# Altium integrated library TI Interface LVDS M-LVDS ECL CML.IntLib: 251 symbols (part 5 of 10)
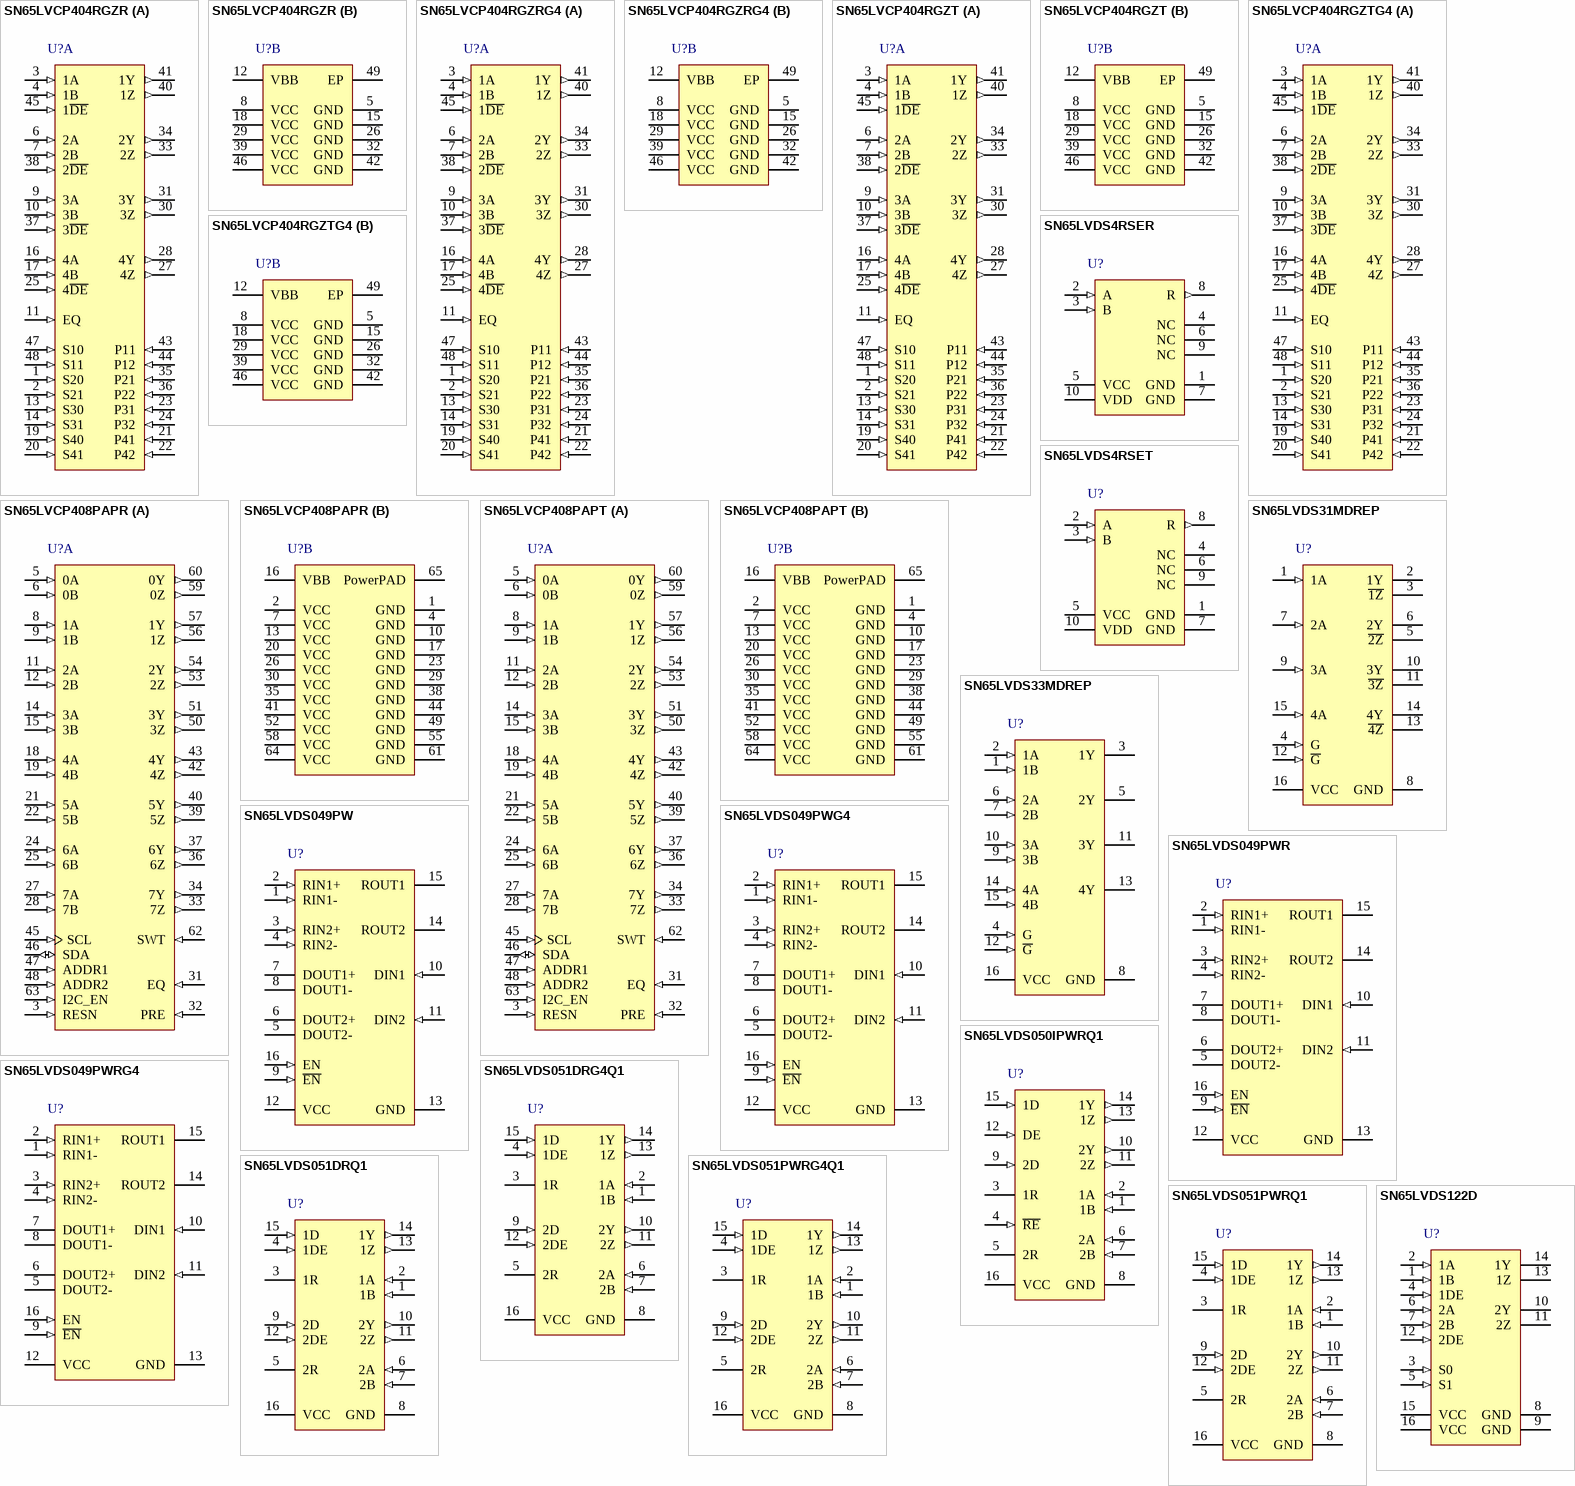
[diagram p13: symbols SN65LVCP404RGZR to SN65LVDS122D]

## SN65LVDS049PWR
designator U?
400 Mbps Dual High-Speed Differential Driver & Receiver with LVDS, LVTTL Input and LVDS, LVTTL Output, 2 Tx and 2 Rx, -40 to +85 degC, 16-pin TSSOP (PW), Green (RoHS & no Sb/Br); Part-to-Part Skew(Max)(ps): 1000; Manufacturer: Texas Instruments; PartNumber: SN65LVDS049PWR; ESD HBM(kV): 10; Function: Transceiver; ICC(Max)(mA): 35; LVDS: TRUE; No. of Rx: 2; Signaling Rate(Mbps): 400; SubFamily: LVDS PHY (<800Mbps); DatasheetVersion: SLLS575; PackageVersion: revG, Feb-2011; PackageReference: PW16; PackageDescription: 16-Pin Plastic Thin Small Outline Package 5 x 4.4 mm Body ,0.65 mm Pitch; Eco-Plan: Green (RoHS & no Sb/Br); Input Signal: LVDS, LVTTL; No. of Tx: 2; Output Signal: LVDS, LVTTL; Mounting Technology: Surface Mount; Code_JEDEC: MO-153; ComponentLink1Description: Datasheet; ComponentLink1URL: http://www.ti.com/general/docs/lit/getliterature.tsp?genericPartNumber=SN65LVDS049&fileType=pdf; ComponentLink2Description: URL Link1; ComponentLink2URL: SamplesURL:http://www.ti.com/product/sn65lvds049#samples
footprint PW16_N (TSOP, 16-Leads, Body 5x4.4mm, Pitch 0.65mm, IPC Medium Density)
footprint PW16_L (TSOP, 16-Leads, Body 5x4.4mm, Pitch 0.65mm, IPC High Density)
footprint PW16_M (TSOP, 16-Leads, Body 5x4.4mm, Pitch 0.65mm, IPC Low Density)
pins: 1 RIN1- (in), 2 RIN1+ (in), 3 RIN2+ (in), 4 RIN2- (in), 5 DOUT2- (hiz), 6 DOUT2+ (hiz), 7 DOUT1+ (hiz), 8 DOUT1- (hiz), 9 ~{EN} (in), 10 DIN1 (in), 11 DIN2 (in), 12 VCC (power), 13 GND (power), 14 ROUT2 (hiz), 15 ROUT1 (hiz), 16 EN (in)

## SN65LVDS049PWRG4
designator U?
400 Mbps Dual High-Speed Differential Driver & Receiver with LVDS, LVTTL Input and LVDS, LVTTL Output, 2 Tx and 2 Rx, -40 to +85 degC, 16-pin TSSOP (PW), Green (RoHS & no Sb/Br); Part-to-Part Skew(Max)(ps): 1000; Manufacturer: Texas Instruments; PartNumber: SN65LVDS049PWRG4; ESD HBM(kV): 10; Function: Transceiver; ICC(Max)(mA): 35; LVDS: TRUE; No. of Rx: 2; Signaling Rate(Mbps): 400; SubFamily: LVDS PHY (<800Mbps); DatasheetVersion: SLLS575; PackageVersion: revG, Feb-2011; PackageReference: PW16; PackageDescription: 16-Pin Plastic Thin Small Outline Package 5 x 4.4 mm Body ,0.65 mm Pitch; Eco-Plan: Green (RoHS & no Sb/Br); Input Signal: LVDS, LVTTL; No. of Tx: 2; Output Signal: LVDS, LVTTL; Mounting Technology: Surface Mount; Code_JEDEC: MO-153; ComponentLink1Description: Datasheet; ComponentLink1URL: http://www.ti.com/general/docs/lit/getliterature.tsp?genericPartNumber=SN65LVDS049&fileType=pdf; ComponentLink2Description: URL Link1; ComponentLink2URL: SamplesURL:http://www.ti.com/product/sn65lvds049#samples
footprint PW16_N (TSOP, 16-Leads, Body 5x4.4mm, Pitch 0.65mm, IPC Medium Density)
footprint PW16_L (TSOP, 16-Leads, Body 5x4.4mm, Pitch 0.65mm, IPC High Density)
footprint PW16_M (TSOP, 16-Leads, Body 5x4.4mm, Pitch 0.65mm, IPC Low Density)
pins: 1 RIN1- (in), 2 RIN1+ (in), 3 RIN2+ (in), 4 RIN2- (in), 5 DOUT2- (hiz), 6 DOUT2+ (hiz), 7 DOUT1+ (hiz), 8 DOUT1- (hiz), 9 ~{EN} (in), 10 DIN1 (in), 11 DIN2 (in), 12 VCC (power), 13 GND (power), 14 ROUT2 (hiz), 15 ROUT1 (hiz), 16 EN (in)

## SN65LVDS050IPWRQ1
designator U?
400 Mbps Automotive Catalog High-Speed Differential Line Drivers and Receivers with LVDS, LVTTL Input and LVDS, LVTTL Output, 2 Tx and 2 Rx, -40 to +85 degC, 16-pin TSSOP (PW), Green (RoHS & no Sb/Br); Manufacturer: Texas Instruments; PartNumber: SN65LVDS050IPWRQ1; ESD HBM(kV): 12; Function: Transceiver; ICC(Max)(mA): 20; No. of Rx: 2; Signaling Rate(Mbps): 400; SubFamily: LVDS PHY (<800Mbps); DatasheetVersion: SGLS204B; PackageVersion: revG, Feb-2011; PackageReference: PW16; PackageDescription: 16-Pin Plastic Thin Small Outline Package 5 x 4.4 mm Body ,0.65 mm Pitch; Supplier 1: Digi-Key; Supplier Part Number 1: 296-30094-2-ND; Supplier 2: Digi-Key; Supplier Part Number 2: 296-30094-1-ND; Supplier 3: Digi-Key; Supplier Part Number 3: 296-30094-6-ND; Supplier 4: Newark; Supplier Part Number 4: 76T7402; Supplier 5: Mouser; Supplier Part Number 5: 595-N65LVDS050IPWRQ1; Eco-Plan: Green (RoHS & no Sb/Br); Input Signal: LVDS, LVTTL; No. of Tx: 2; Output Signal: LVDS, LVTTL; Mounting Technology: Surface Mount; Code_JEDEC: MO-153; ComponentLink1Description: Datasheet; ComponentLink1URL: http://www.ti.com/general/docs/lit/getliterature.tsp?genericPartNumber=SN65LVDS050-Q1&fileType=pdf; ComponentLink2Description: URL Link1; ComponentLink2URL: SamplesURL:http://www.ti.com/product/sn65lvds050-q1#samples
footprint PW16_N (TSOP, 16-Leads, Body 5x4.4mm, Pitch 0.65mm, IPC Medium Density)
footprint PW16_L (TSOP, 16-Leads, Body 5x4.4mm, Pitch 0.65mm, IPC High Density)
footprint PW16_M (TSOP, 16-Leads, Body 5x4.4mm, Pitch 0.65mm, IPC Low Density)
pins: 1 1B (in), 2 1A (in), 3 1R (hiz), 4 ~{RE} (in), 5 2R (hiz), 6 2A (in), 7 2B (in), 8 GND (power), 9 2D (in), 10 2Y (out), 11 2Z (out), 12 DE (in), 13 1Z (out), 14 1Y (out), 15 1D (in), 16 VCC (power)

## SN65LVDS051DRG4Q1
designator U?
400 Mbps Automotive Catalog High-Speed Differential Line Drivers and Receivers with LVDS, LVTTL Input and LVDS, LVTTL Output, 2 Tx and 2 Rx, -40 to +85 degC, 16-pin SOIC (D), Green (RoHS & no Sb/Br); Manufacturer: Texas Instruments; PartNumber: SN65LVDS051DRG4Q1; ESD HBM(kV): 2; ICC(Max)(mA): 20; LVDS: TRUE; Signaling Rate(Mbps): 400; SubFamily: LVDS PHY (<800Mbps); DatasheetVersion: SGLS204B; PackageVersion: revM, Jun-2011; PackageReference: D16; PackageDescription: 16-Pin Plastic Small Outline Integrated Circuit, 9.9 x 3.9 mm, Pitch 1.27 mm Pitch; Supplier 1: Digi-Key; Supplier Part Number 1: 296-24422-2-ND; Supplier 2: Digi-Key; Supplier Part Number 2: 296-24422-1-ND; Supplier 3: Digi-Key; Supplier Part Number 3: 296-24422-6-ND; Supplier 4: Mouser; Supplier Part Number 4: 595-S65LVDS051DRG4Q1; Eco-Plan: Green (RoHS & no Sb/Br); Input Signal: LVDS, LVTTL; No. of Rx: 2; No. of Tx: 2; Output Signal: LVDS, LVTTL; Mounting Technology: Surface Mount; Code_JEDEC: MS-012AC; ComponentLink1Description: Datasheet; ComponentLink1URL: http://www.ti.com/general/docs/lit/getliterature.tsp?genericPartNumber=SN65LVDS051-Q1&fileType=pdf; ComponentLink2Description: URL Link1; ComponentLink2URL: SamplesURL:http://www.ti.com/product/sn65lvds051-q1#samples
footprint D16_N (SOIC, 16-Leads, Body 9.9x3.9mm, Pitch 1.27mm, IPC Medium Density)
footprint D16_L (SOIC, 16-Leads, Body 9.9x3.9mm, Pitch 1.27mm, IPC High Density)
footprint D16_M (SOIC, 16-Leads, Body 9.9x3.9mm, Pitch 1.27mm, IPC Low Density)
pins: 1 1B (in), 2 1A (in), 3 1R (hiz), 4 1DE (in), 5 2R (hiz), 6 2A (in), 7 2B (in), 8 GND (power), 9 2D (in), 10 2Y (out), 11 2Z (out), 12 2DE (in), 13 1Z (out), 14 1Y (out), 15 1D (in), 16 VCC (power)

## SN65LVDS051DRQ1
designator U?
400 Mbps Automotive Catalog High-Speed Differential Line Drivers and Receivers with LVDS, LVTTL Input and LVDS, LVTTL Output, 2 Tx and 2 Rx, -40 to +85 degC, 16-pin SOIC (D), Green (RoHS & no Sb/Br); Manufacturer: Texas Instruments; PartNumber: SN65LVDS051DRQ1; ESD HBM(kV): 2; ICC(Max)(mA): 20; LVDS: TRUE; Signaling Rate(Mbps): 400; SubFamily: LVDS PHY (<800Mbps); DatasheetVersion: SGLS204B; PackageVersion: revM, Jun-2011; PackageReference: D16; PackageDescription: 16-Pin Plastic Small Outline Integrated Circuit, 9.9 x 3.9 mm, Pitch 1.27 mm Pitch; Supplier 1: Digi-Key; Supplier Part Number 1: SN65LVDS051DRQ1-ND; Supplier 2: Mouser; Supplier Part Number 2: 595-SN65LVDS051DRQ1; Eco-Plan: Green (RoHS & no Sb/Br); Input Signal: LVDS, LVTTL; No. of Rx: 2; No. of Tx: 2; Output Signal: LVDS, LVTTL; Mounting Technology: Surface Mount; Code_JEDEC: MS-012AC; ComponentLink1Description: Datasheet; ComponentLink1URL: http://www.ti.com/general/docs/lit/getliterature.tsp?genericPartNumber=SN65LVDS051-Q1&fileType=pdf; ComponentLink2Description: URL Link1; ComponentLink2URL: SamplesURL:http://www.ti.com/product/sn65lvds051-q1#samples
footprint D16_N (SOIC, 16-Leads, Body 9.9x3.9mm, Pitch 1.27mm, IPC Medium Density)
footprint D16_L (SOIC, 16-Leads, Body 9.9x3.9mm, Pitch 1.27mm, IPC High Density)
footprint D16_M (SOIC, 16-Leads, Body 9.9x3.9mm, Pitch 1.27mm, IPC Low Density)
pins: 1 1B (in), 2 1A (in), 3 1R (hiz), 4 1DE (in), 5 2R (hiz), 6 2A (in), 7 2B (in), 8 GND (power), 9 2D (in), 10 2Y (out), 11 2Z (out), 12 2DE (in), 13 1Z (out), 14 1Y (out), 15 1D (in), 16 VCC (power)

## SN65LVDS051PWRG4Q1
designator U?
400 Mbps Automotive Catalog High-Speed Differential Line Drivers and Receivers with LVDS, LVTTL Input and LVDS, LVTTL Output, 2 Tx and 2 Rx, -40 to +85 degC, 16-pin TSSOP (PW), Green (RoHS & no Sb/Br); Manufacturer: Texas Instruments; PartNumber: SN65LVDS051PWRG4Q1; ESD HBM(kV): 2; ICC(Max)(mA): 20; LVDS: TRUE; Signaling Rate(Mbps): 400; SubFamily: LVDS PHY (<800Mbps); DatasheetVersion: SGLS204B; PackageVersion: revG, Feb-2011; PackageReference: PW16; PackageDescription: 16-Pin Plastic Thin Small Outline Package 5 x 4.4 mm Body ,0.65 mm Pitch; Supplier 1: Digi-Key; Supplier Part Number 1: SN65LVDS051PWRG4Q1-ND; Eco-Plan: Green (RoHS & no Sb/Br); Input Signal: LVDS, LVTTL; No. of Rx: 2; No. of Tx: 2; Output Signal: LVDS, LVTTL; Mounting Technology: Surface Mount; Code_JEDEC: MO-153; ComponentLink1Description: Datasheet; ComponentLink1URL: http://www.ti.com/general/docs/lit/getliterature.tsp?genericPartNumber=SN65LVDS051-Q1&fileType=pdf; ComponentLink2Description: URL Link1; ComponentLink2URL: SamplesURL:http://www.ti.com/product/sn65lvds051-q1#samples
footprint PW16_N (TSOP, 16-Leads, Body 5x4.4mm, Pitch 0.65mm, IPC Medium Density)
footprint PW16_L (TSOP, 16-Leads, Body 5x4.4mm, Pitch 0.65mm, IPC High Density)
footprint PW16_M (TSOP, 16-Leads, Body 5x4.4mm, Pitch 0.65mm, IPC Low Density)
pins: 1 1B (in), 2 1A (in), 3 1R (hiz), 4 1DE (in), 5 2R (hiz), 6 2A (in), 7 2B (in), 8 GND (power), 9 2D (in), 10 2Y (out), 11 2Z (out), 12 2DE (in), 13 1Z (out), 14 1Y (out), 15 1D (in), 16 VCC (power)

## SN65LVDS051PWRQ1
designator U?
400 Mbps Automotive Catalog High-Speed Differential Line Drivers and Receivers with LVDS, LVTTL Input and LVDS, LVTTL Output, 2 Tx and 2 Rx, -40 to +85 degC, 16-pin TSSOP (PW), Green (RoHS & no Sb/Br); Manufacturer: Texas Instruments; PartNumber: SN65LVDS051PWRQ1; ESD HBM(kV): 2; ICC(Max)(mA): 20; LVDS: TRUE; Signaling Rate(Mbps): 400; SubFamily: LVDS PHY (<800Mbps); DatasheetVersion: SGLS204B; PackageVersion: revG, Feb-2011; PackageReference: PW16; PackageDescription: 16-Pin Plastic Thin Small Outline Package 5 x 4.4 mm Body ,0.65 mm Pitch; Eco-Plan: Green (RoHS & no Sb/Br); Input Signal: LVDS, LVTTL; No. of Rx: 2; No. of Tx: 2; Output Signal: LVDS, LVTTL; Mounting Technology: Surface Mount; Code_JEDEC: MO-153; ComponentLink1Description: Datasheet; ComponentLink1URL: http://www.ti.com/general/docs/lit/getliterature.tsp?genericPartNumber=SN65LVDS051-Q1&fileType=pdf; ComponentLink2Description: URL Link1; ComponentLink2URL: SamplesURL:http://www.ti.com/product/sn65lvds051-q1#samples
footprint PW16_N (TSOP, 16-Leads, Body 5x4.4mm, Pitch 0.65mm, IPC Medium Density)
footprint PW16_L (TSOP, 16-Leads, Body 5x4.4mm, Pitch 0.65mm, IPC High Density)
footprint PW16_M (TSOP, 16-Leads, Body 5x4.4mm, Pitch 0.65mm, IPC Low Density)
pins: 1 1B (in), 2 1A (in), 3 1R (hiz), 4 1DE (in), 5 2R (hiz), 6 2A (in), 7 2B (in), 8 GND (power), 9 2D (in), 10 2Y (out), 11 2Z (out), 12 2DE (in), 13 1Z (out), 14 1Y (out), 15 1D (in), 16 VCC (power)

## SN65LVDS122D
designator U?
1500 Mbps 2 X 2 LVDS Crosspoint Switch with CML, LVDS, LVPECL Input and LVDS Output, 2 Tx and 2 Rx, -40 to +85 degC, 16-pin SOIC (D), Green (RoHS & no Sb/Br); Manufacturer: Texas Instruments; PartNumber: SN65LVDS122D; Crosspoint-Switch: TRUE; ESD HBM(kV): 4; ICC(Max)(mA): 100; No. of Rx: 2; Peak-to-Peak Jitter(Max)(ps): 65; Signaling Rate(Mbps): 1500; SubFamily: Crosspoint-Switch (>1Gbps); DatasheetVersion: SLLS525B; PackageVersion: revM, Jun-2011; PackageReference: D16; PackageDescription: 16-Pin Plastic Small Outline Integrated Circuit, 9.9 x 3.9 mm, Pitch 1.27 mm Pitch; Eco-Plan: Green (RoHS & no Sb/Br); Function: Crosspoint; Input Signal: CML, LVDS, LVPECL; No. of Tx: 2; Output Signal: LVDS; Part-to-Part Skew(Max)(ps): 100; Mounting Technology: Surface Mount; Code_JEDEC: MS-012AC; ComponentLink1Description: Datasheet; ComponentLink1URL: http://www.ti.com/general/docs/lit/getliterature.tsp?genericPartNumber=SN65LVDS122&fileType=pdf; ComponentLink2Description: URL Link1; ComponentLink2URL: SamplesURL:http://www.ti.com/product/sn65lvds122#samples
footprint D16_N (SOIC, 16-Leads, Body 9.9x3.9mm, Pitch 1.27mm, IPC Medium Density)
footprint D16_L (SOIC, 16-Leads, Body 9.9x3.9mm, Pitch 1.27mm, IPC High Density)
footprint D16_M (SOIC, 16-Leads, Body 9.9x3.9mm, Pitch 1.27mm, IPC Low Density)
pins: 1 1B (in), 2 1A (in), 3 S0 (in), 4 1DE (in), 5 S1 (in), 6 2A (in), 7 2B (in), 8 GND (power), 9 GND (power), 10 2Y (hiz), 11 2Z (hiz), 12 2DE (in), 13 1Z (hiz), 14 1Y (hiz), 15 VCC (power), 16 VCC (power)

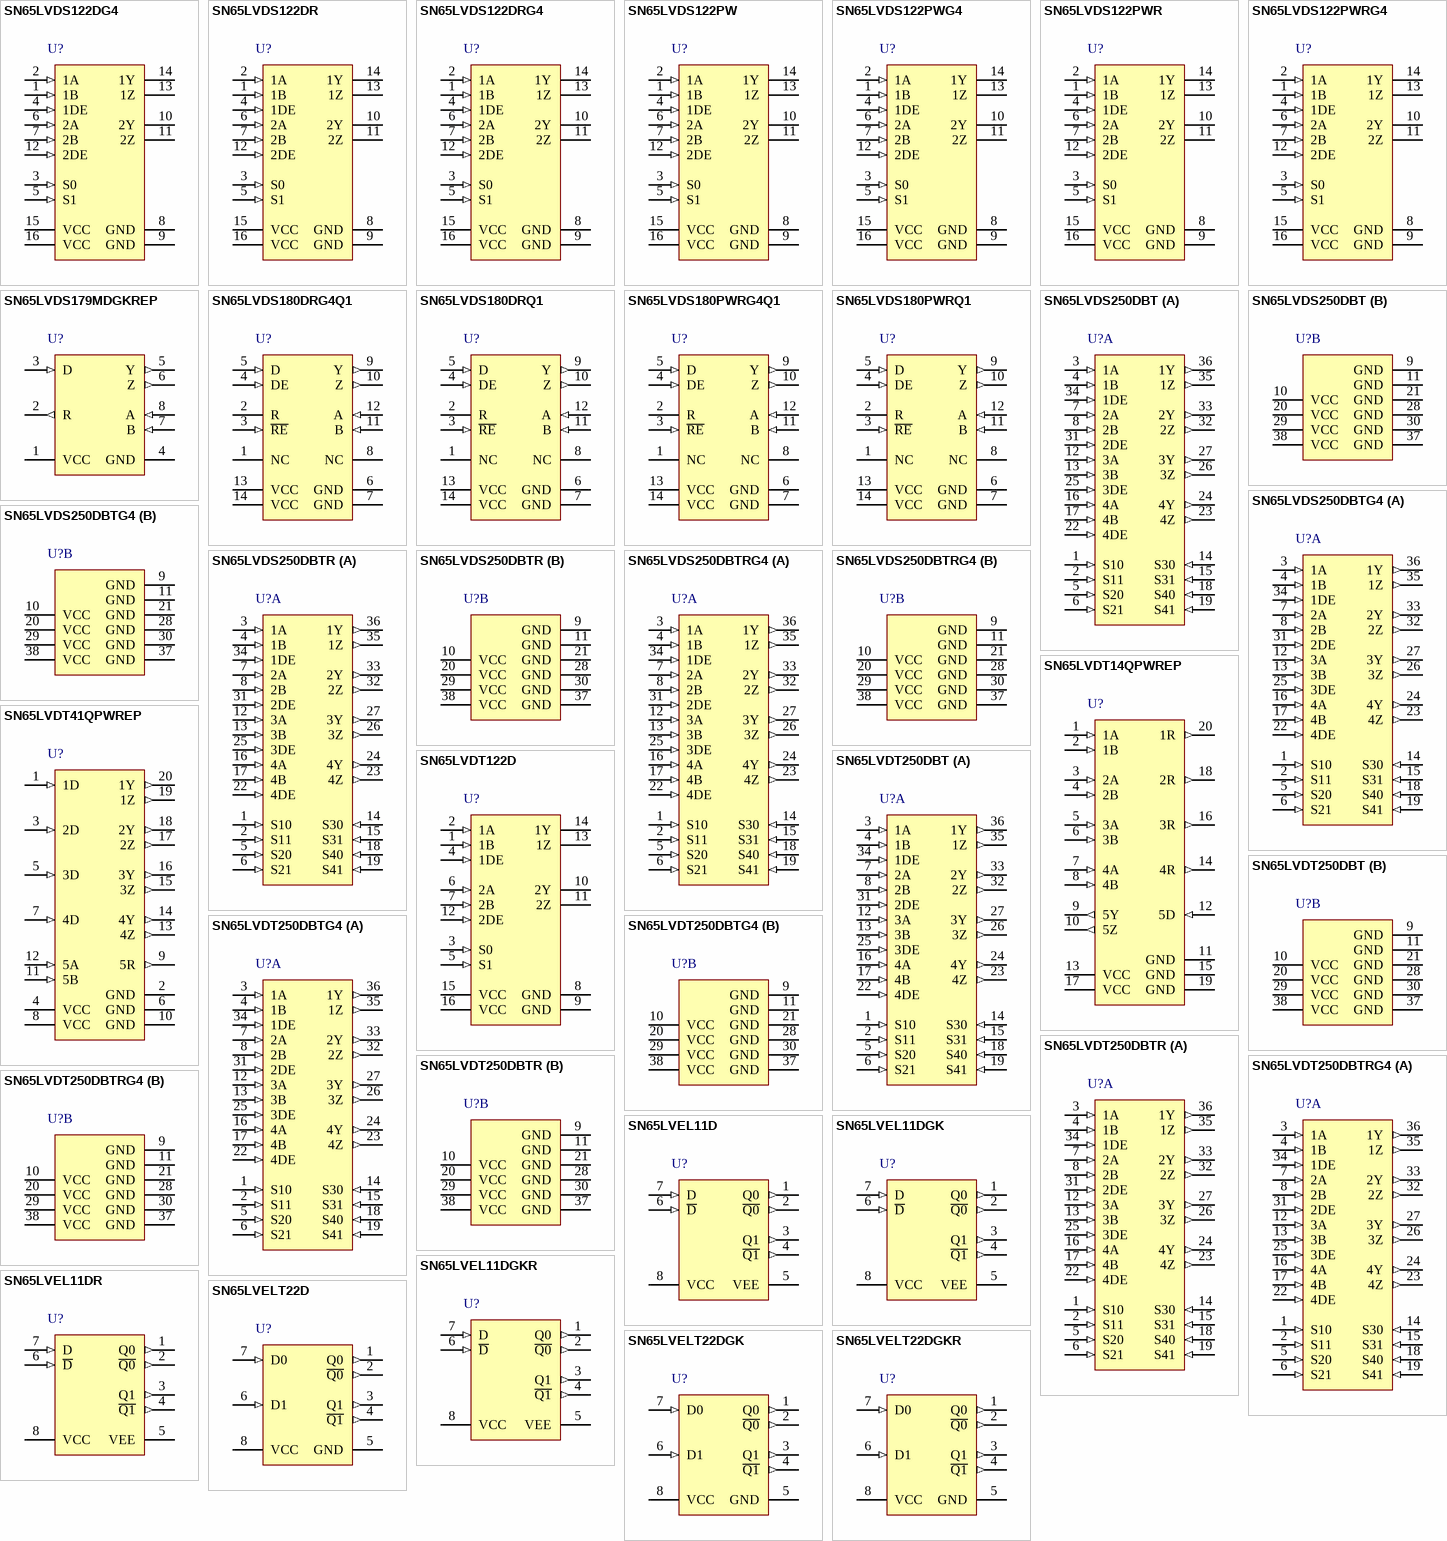
[diagram p4: symbols SN65LVDS122DG4 to SN65LVELT22DGKR]

## SN65LVDS122DG4
designator U?
1500 Mbps 2 X 2 LVDS Crosspoint Switch with CML, LVDS, LVPECL Input and LVDS Output, 2 Tx and 2 Rx, -40 to +85 degC, 16-pin SOIC (D), Green (RoHS & no Sb/Br); Manufacturer: Texas Instruments; PartNumber: SN65LVDS122DG4; Crosspoint-Switch: TRUE; ESD HBM(kV): 4; ICC(Max)(mA): 100; No. of Rx: 2; Peak-to-Peak Jitter(Max)(ps): 65; Signaling Rate(Mbps): 1500; SubFamily: Crosspoint-Switch (>1Gbps); DatasheetVersion: SLLS525B; PackageVersion: revM, Jun-2011; PackageReference: D16; PackageDescription: 16-Pin Plastic Small Outline Integrated Circuit, 9.9 x 3.9 mm, Pitch 1.27 mm Pitch; Eco-Plan: Green (RoHS & no Sb/Br); Function: Crosspoint; Input Signal: CML, LVDS, LVPECL; No. of Tx: 2; Output Signal: LVDS; Part-to-Part Skew(Max)(ps): 100; Mounting Technology: Surface Mount; Code_JEDEC: MS-012AC; ComponentLink1Description: Datasheet; ComponentLink1URL: http://www.ti.com/general/docs/lit/getliterature.tsp?genericPartNumber=SN65LVDS122&fileType=pdf; ComponentLink2Description: URL Link1; ComponentLink2URL: SamplesURL:http://www.ti.com/product/sn65lvds122#samples
footprint D16_N (SOIC, 16-Leads, Body 9.9x3.9mm, Pitch 1.27mm, IPC Medium Density)
footprint D16_L (SOIC, 16-Leads, Body 9.9x3.9mm, Pitch 1.27mm, IPC High Density)
footprint D16_M (SOIC, 16-Leads, Body 9.9x3.9mm, Pitch 1.27mm, IPC Low Density)
pins: 1 1B (in), 2 1A (in), 3 S0 (in), 4 1DE (in), 5 S1 (in), 6 2A (in), 7 2B (in), 8 GND (power), 9 GND (power), 10 2Y (hiz), 11 2Z (hiz), 12 2DE (in), 13 1Z (hiz), 14 1Y (hiz), 15 VCC (power), 16 VCC (power)

## SN65LVDS122DR
designator U?
1500 Mbps 2 X 2 LVDS Crosspoint Switch with CML, LVDS, LVPECL Input and LVDS Output, 2 Tx and 2 Rx, -40 to +85 degC, 16-pin SOIC (D), Green (RoHS & no Sb/Br); Manufacturer: Texas Instruments; PartNumber: SN65LVDS122DR; Crosspoint-Switch: TRUE; ESD HBM(kV): 4; ICC(Max)(mA): 100; No. of Rx: 2; Peak-to-Peak Jitter(Max)(ps): 65; Signaling Rate(Mbps): 1500; SubFamily: Crosspoint-Switch (>1Gbps); DatasheetVersion: SLLS525B; PackageVersion: revM, Jun-2011; PackageReference: D16; PackageDescription: 16-Pin Plastic Small Outline Integrated Circuit, 9.9 x 3.9 mm, Pitch 1.27 mm Pitch; Eco-Plan: Green (RoHS & no Sb/Br); Function: Crosspoint; Input Signal: CML, LVDS, LVPECL; No. of Tx: 2; Output Signal: LVDS; Part-to-Part Skew(Max)(ps): 100; Mounting Technology: Surface Mount; Code_JEDEC: MS-012AC; ComponentLink1Description: Datasheet; ComponentLink1URL: http://www.ti.com/general/docs/lit/getliterature.tsp?genericPartNumber=SN65LVDS122&fileType=pdf; ComponentLink2Description: URL Link1; ComponentLink2URL: SamplesURL:http://www.ti.com/product/sn65lvds122#samples
footprint D16_N (SOIC, 16-Leads, Body 9.9x3.9mm, Pitch 1.27mm, IPC Medium Density)
footprint D16_L (SOIC, 16-Leads, Body 9.9x3.9mm, Pitch 1.27mm, IPC High Density)
footprint D16_M (SOIC, 16-Leads, Body 9.9x3.9mm, Pitch 1.27mm, IPC Low Density)
pins: 1 1B (in), 2 1A (in), 3 S0 (in), 4 1DE (in), 5 S1 (in), 6 2A (in), 7 2B (in), 8 GND (power), 9 GND (power), 10 2Y (hiz), 11 2Z (hiz), 12 2DE (in), 13 1Z (hiz), 14 1Y (hiz), 15 VCC (power), 16 VCC (power)

## SN65LVDS122DRG4
designator U?
1500 Mbps 2 X 2 LVDS Crosspoint Switch with CML, LVDS, LVPECL Input and LVDS Output, 2 Tx and 2 Rx, -40 to +85 degC, 16-pin SOIC (D), Green (RoHS & no Sb/Br); Manufacturer: Texas Instruments; PartNumber: SN65LVDS122DRG4; Crosspoint-Switch: TRUE; ESD HBM(kV): 4; ICC(Max)(mA): 100; No. of Rx: 2; Peak-to-Peak Jitter(Max)(ps): 65; Signaling Rate(Mbps): 1500; SubFamily: Crosspoint-Switch (>1Gbps); DatasheetVersion: SLLS525B; PackageVersion: revM, Jun-2011; PackageReference: D16; PackageDescription: 16-Pin Plastic Small Outline Integrated Circuit, 9.9 x 3.9 mm, Pitch 1.27 mm Pitch; Eco-Plan: Green (RoHS & no Sb/Br); Function: Crosspoint; Input Signal: CML, LVDS, LVPECL; No. of Tx: 2; Output Signal: LVDS; Part-to-Part Skew(Max)(ps): 100; Mounting Technology: Surface Mount; Code_JEDEC: MS-012AC; ComponentLink1Description: Datasheet; ComponentLink1URL: http://www.ti.com/general/docs/lit/getliterature.tsp?genericPartNumber=SN65LVDS122&fileType=pdf; ComponentLink2Description: URL Link1; ComponentLink2URL: SamplesURL:http://www.ti.com/product/sn65lvds122#samples
footprint D16_N (SOIC, 16-Leads, Body 9.9x3.9mm, Pitch 1.27mm, IPC Medium Density)
footprint D16_L (SOIC, 16-Leads, Body 9.9x3.9mm, Pitch 1.27mm, IPC High Density)
footprint D16_M (SOIC, 16-Leads, Body 9.9x3.9mm, Pitch 1.27mm, IPC Low Density)
pins: 1 1B (in), 2 1A (in), 3 S0 (in), 4 1DE (in), 5 S1 (in), 6 2A (in), 7 2B (in), 8 GND (power), 9 GND (power), 10 2Y (hiz), 11 2Z (hiz), 12 2DE (in), 13 1Z (hiz), 14 1Y (hiz), 15 VCC (power), 16 VCC (power)

## SN65LVDS122PW
designator U?
1500 Mbps 2 X 2 LVDS Crosspoint Switch with CML, LVDS, LVPECL Input and LVDS Output, 2 Tx and 2 Rx, -40 to +85 degC, 16-pin TSSOP (PW), Green (RoHS & no Sb/Br); Manufacturer: Texas Instruments; PartNumber: SN65LVDS122PW; Crosspoint-Switch: TRUE; ESD HBM(kV): 4; ICC(Max)(mA): 100; No. of Rx: 2; Peak-to-Peak Jitter(Max)(ps): 65; Signaling Rate(Mbps): 1500; SubFamily: Crosspoint-Switch (>1Gbps); DatasheetVersion: SLLS525B; PackageVersion: revG, Feb-2011; PackageReference: PW16; PackageDescription: 16-Pin Plastic Thin Small Outline Package 5 x 4.4 mm Body ,0.65 mm Pitch; Eco-Plan: Green (RoHS & no Sb/Br); Function: Crosspoint; Input Signal: CML, LVDS, LVPECL; No. of Tx: 2; Output Signal: LVDS; Part-to-Part Skew(Max)(ps): 100; Mounting Technology: Surface Mount; Code_JEDEC: MO-153; ComponentLink1Description: Datasheet; ComponentLink1URL: http://www.ti.com/general/docs/lit/getliterature.tsp?genericPartNumber=SN65LVDS122&fileType=pdf; ComponentLink2Description: URL Link1; ComponentLink2URL: SamplesURL:http://www.ti.com/product/sn65lvds122#samples
footprint PW16_N (TSOP, 16-Leads, Body 5x4.4mm, Pitch 0.65mm, IPC Medium Density)
footprint PW16_L (TSOP, 16-Leads, Body 5x4.4mm, Pitch 0.65mm, IPC High Density)
footprint PW16_M (TSOP, 16-Leads, Body 5x4.4mm, Pitch 0.65mm, IPC Low Density)
pins: 1 1B (in), 2 1A (in), 3 S0 (in), 4 1DE (in), 5 S1 (in), 6 2A (in), 7 2B (in), 8 GND (power), 9 GND (power), 10 2Y (hiz), 11 2Z (hiz), 12 2DE (in), 13 1Z (hiz), 14 1Y (hiz), 15 VCC (power), 16 VCC (power)

## SN65LVDS122PWG4
designator U?
1500 Mbps 2 X 2 LVDS Crosspoint Switch with CML, LVDS, LVPECL Input and LVDS Output, 2 Tx and 2 Rx, -40 to +85 degC, 16-pin TSSOP (PW), Green (RoHS & no Sb/Br); Manufacturer: Texas Instruments; PartNumber: SN65LVDS122PWG4; Crosspoint-Switch: TRUE; ESD HBM(kV): 4; ICC(Max)(mA): 100; No. of Rx: 2; Peak-to-Peak Jitter(Max)(ps): 65; Signaling Rate(Mbps): 1500; SubFamily: Crosspoint-Switch (>1Gbps); DatasheetVersion: SLLS525B; PackageVersion: revG, Feb-2011; PackageReference: PW16; PackageDescription: 16-Pin Plastic Thin Small Outline Package 5 x 4.4 mm Body ,0.65 mm Pitch; Eco-Plan: Green (RoHS & no Sb/Br); Function: Crosspoint; Input Signal: CML, LVDS, LVPECL; No. of Tx: 2; Output Signal: LVDS; Part-to-Part Skew(Max)(ps): 100; Mounting Technology: Surface Mount; Code_JEDEC: MO-153; ComponentLink1Description: Datasheet; ComponentLink1URL: http://www.ti.com/general/docs/lit/getliterature.tsp?genericPartNumber=SN65LVDS122&fileType=pdf; ComponentLink2Description: URL Link1; ComponentLink2URL: SamplesURL:http://www.ti.com/product/sn65lvds122#samples
footprint PW16_N (TSOP, 16-Leads, Body 5x4.4mm, Pitch 0.65mm, IPC Medium Density)
footprint PW16_L (TSOP, 16-Leads, Body 5x4.4mm, Pitch 0.65mm, IPC High Density)
footprint PW16_M (TSOP, 16-Leads, Body 5x4.4mm, Pitch 0.65mm, IPC Low Density)
pins: 1 1B (in), 2 1A (in), 3 S0 (in), 4 1DE (in), 5 S1 (in), 6 2A (in), 7 2B (in), 8 GND (power), 9 GND (power), 10 2Y (hiz), 11 2Z (hiz), 12 2DE (in), 13 1Z (hiz), 14 1Y (hiz), 15 VCC (power), 16 VCC (power)

## SN65LVDS122PWR
designator U?
1500 Mbps 2 X 2 LVDS Crosspoint Switch with CML, LVDS, LVPECL Input and LVDS Output, 2 Tx and 2 Rx, -40 to +85 degC, 16-pin TSSOP (PW), Green (RoHS & no Sb/Br); Manufacturer: Texas Instruments; PartNumber: SN65LVDS122PWR; Crosspoint-Switch: TRUE; ESD HBM(kV): 4; ICC(Max)(mA): 100; No. of Rx: 2; Peak-to-Peak Jitter(Max)(ps): 65; Signaling Rate(Mbps): 1500; SubFamily: Crosspoint-Switch (>1Gbps); DatasheetVersion: SLLS525B; PackageVersion: revG, Feb-2011; PackageReference: PW16; PackageDescription: 16-Pin Plastic Thin Small Outline Package 5 x 4.4 mm Body ,0.65 mm Pitch; Eco-Plan: Green (RoHS & no Sb/Br); Function: Crosspoint; Input Signal: CML, LVDS, LVPECL; No. of Tx: 2; Output Signal: LVDS; Part-to-Part Skew(Max)(ps): 100; Mounting Technology: Surface Mount; Code_JEDEC: MO-153; ComponentLink1Description: Datasheet; ComponentLink1URL: http://www.ti.com/general/docs/lit/getliterature.tsp?genericPartNumber=SN65LVDS122&fileType=pdf; ComponentLink2Description: URL Link1; ComponentLink2URL: SamplesURL:http://www.ti.com/product/sn65lvds122#samples
footprint PW16_N (TSOP, 16-Leads, Body 5x4.4mm, Pitch 0.65mm, IPC Medium Density)
footprint PW16_L (TSOP, 16-Leads, Body 5x4.4mm, Pitch 0.65mm, IPC High Density)
footprint PW16_M (TSOP, 16-Leads, Body 5x4.4mm, Pitch 0.65mm, IPC Low Density)
pins: 1 1B (in), 2 1A (in), 3 S0 (in), 4 1DE (in), 5 S1 (in), 6 2A (in), 7 2B (in), 8 GND (power), 9 GND (power), 10 2Y (hiz), 11 2Z (hiz), 12 2DE (in), 13 1Z (hiz), 14 1Y (hiz), 15 VCC (power), 16 VCC (power)

## SN65LVDS122PWRG4
designator U?
1500 Mbps 2 X 2 LVDS Crosspoint Switch with CML, LVDS, LVPECL Input and LVDS Output, 2 Tx and 2 Rx, -40 to +85 degC, 16-pin TSSOP (PW), Green (RoHS & no Sb/Br); Manufacturer: Texas Instruments; PartNumber: SN65LVDS122PWRG4; Crosspoint-Switch: TRUE; ESD HBM(kV): 4; ICC(Max)(mA): 100; No. of Rx: 2; Peak-to-Peak Jitter(Max)(ps): 65; Signaling Rate(Mbps): 1500; SubFamily: Crosspoint-Switch (>1Gbps); DatasheetVersion: SLLS525B; PackageVersion: revG, Feb-2011; PackageReference: PW16; PackageDescription: 16-Pin Plastic Thin Small Outline Package 5 x 4.4 mm Body ,0.65 mm Pitch; Eco-Plan: Green (RoHS & no Sb/Br); Function: Crosspoint; Input Signal: CML, LVDS, LVPECL; No. of Tx: 2; Output Signal: LVDS; Part-to-Part Skew(Max)(ps): 100; Mounting Technology: Surface Mount; Code_JEDEC: MO-153; ComponentLink1Description: Datasheet; ComponentLink1URL: http://www.ti.com/general/docs/lit/getliterature.tsp?genericPartNumber=SN65LVDS122&fileType=pdf; ComponentLink2Description: URL Link1; ComponentLink2URL: SamplesURL:http://www.ti.com/product/sn65lvds122#samples
footprint PW16_N (TSOP, 16-Leads, Body 5x4.4mm, Pitch 0.65mm, IPC Medium Density)
footprint PW16_L (TSOP, 16-Leads, Body 5x4.4mm, Pitch 0.65mm, IPC High Density)
footprint PW16_M (TSOP, 16-Leads, Body 5x4.4mm, Pitch 0.65mm, IPC Low Density)
pins: 1 1B (in), 2 1A (in), 3 S0 (in), 4 1DE (in), 5 S1 (in), 6 2A (in), 7 2B (in), 8 GND (power), 9 GND (power), 10 2Y (hiz), 11 2Z (hiz), 12 2DE (in), 13 1Z (hiz), 14 1Y (hiz), 15 VCC (power), 16 VCC (power)

## SN65LVDS179MDGKREP
designator U?
400 Mbps Enhanced Product High-Speed Differential Line Driver and Receiver with LVDS, LVTTL Input and LVDS, LVTTL Output, 1 Tx and 1 Rx, -55 to +125 degC, 8-pin VSSOP (DGK), Green (RoHS & no Sb/Br); Manufacturer: Texas Instruments; PartNumber: SN65LVDS179MDGKREP; ESD HBM(kV): 12; Function: Transceiver; No. of Rx: 1; Signaling Rate(Mbps): 400; SubFamily: LVDS PHY (<800Mbps); DatasheetVersion: SGLS203B; PackageVersion: revE, May-2006; PackageReference: DGK8; PackageDescription: 8-Pin Thin Small Outline Package 3 x 3 mm Body ,0.65 mm Pitch; Supplier 1: Digi-Key; Supplier Part Number 1: 296-22243-2-ND; Supplier 2: Digi-Key; Supplier Part Number 2: 296-22243-1-ND; Supplier 3: Digi-Key; Supplier Part Number 3: 296-22243-6-ND; Supplier 4: Newark; Supplier Part Number 4: 45M9838; Supplier 5: Mouser; Supplier Part Number 5: 595-65LVDS179MDGKREP; Eco-Plan: Green (RoHS & no Sb/Br); ICC(Max)(mA): 12; Input Signal: LVDS, LVTTL; No. of Tx: 1; Output Signal: LVDS, LVTTL; Mounting Technology: Surface Mount; Code_JEDEC: MO-187-AA; ComponentLink1Description: Datasheet; ComponentLink1URL: http://www.ti.com/general/docs/lit/getliterature.tsp?genericPartNumber=SN65LVDS179-EP&fileType=pdf; ComponentLink2Description: URL Link1; ComponentLink2URL: SamplesURL:http://www.ti.com/product/sn65lvds179-ep#samples
footprint DGK8_N (TSOP, 8-Leads, Body 3x3mm, Pitch 0.65mm, IPC Medium Density)
footprint DGK8_L (TSOP, 8-Leads, Body 3x3mm, Pitch 0.65mm, IPC High Density)
footprint DGK8_M (TSOP, 8-Leads, Body 3x3mm, Pitch 0.65mm, IPC Low Density)
pins: 1 VCC (power), 2 R (out), 3 D (in), 4 GND (power), 5 Y (out), 6 Z (out), 7 B (in), 8 A (in)

## SN65LVDS180DRG4Q1
designator U?
400 Mbps Automotive Catalog High-Speed Differential Line Drivers and Receivers with LVDS, LVTTL Input and LVDS, LVTTL Output, 1 Tx and 1 Rx, -40 to +85 degC, 14-pin SOIC (D), Green (RoHS & no Sb/Br); Manufacturer: Texas Instruments; PartNumber: SN65LVDS180DRG4Q1; ESD HBM(kV): 2; ICC(Max)(mA): 12; LVDS: TRUE; No. of Rx: 1; Signaling Rate(Mbps): 400; SubFamily: LVDS PHY (<800Mbps); DatasheetVersion: SGLS204B; PackageVersion: revM, Jun-2011; PackageReference: D14; PackageDescription: 14-Pin Plastic Small Outline Integrated Circuit, 8.7 x 3.9 mm, Pitch 1.27 mm Pitch; Eco-Plan: Green (RoHS & no Sb/Br); Input Signal: LVDS, LVTTL; No. of Tx: 1; Output Signal: LVDS, LVTTL; Mounting Technology: Surface Mount; Code_JEDEC: MS-012AB; ComponentLink1Description: Datasheet; ComponentLink1URL: http://www.ti.com/general/docs/lit/getliterature.tsp?genericPartNumber=SN65LVDS180-Q1&fileType=pdf; ComponentLink2Description: URL Link1; ComponentLink2URL: SamplesURL:http://www.ti.com/product/sn65lvds180-q1#samples
footprint D14_N (SOIC, 14-Leads, Body 8.7x3.9mm, Pitch 1.27mm, IPC Medium Density)
footprint D14_L (SOIC, 14-Leads, Body 8.7x3.9mm, Pitch 1.27mm, IPC High Density)
footprint D14_M (SOIC, 14-Leads, Body 8.7x3.9mm, Pitch 1.27mm, IPC Low Density)
pins: 1 NC, 2 R (hiz), 3 ~{RE} (in), 4 DE (in), 5 D (in), 6 GND (power), 7 GND (power), 8 NC, 9 Y (out), 10 Z (out), 11 B (in), 12 A (in), 13 VCC (power), 14 VCC (power)

## SN65LVDS180DRQ1
designator U?
400 Mbps Automotive Catalog High-Speed Differential Line Driver and Receiver with LVDS, LVTTL Input and LVDS, LVTTL Output, 1 Tx and 1 Rx, -40 to +85 degC, 14-pin SOIC (D), Green (RoHS & no Sb/Br); Manufacturer: Texas Instruments; PartNumber: SN65LVDS180DRQ1; ESD HBM(kV): 2; ICC(Max)(mA): 12; LVDS: TRUE; No. of Rx: 1; Signaling Rate(Mbps): 400; SubFamily: LVDS PHY (<800Mbps); DatasheetVersion: SGLS204B; PackageVersion: revM, Jun-2011; PackageReference: D14; PackageDescription: 14-Pin Plastic Small Outline Integrated Circuit, 8.7 x 3.9 mm, Pitch 1.27 mm Pitch; Eco-Plan: Green (RoHS & no Sb/Br); Input Signal: LVDS, LVTTL; No. of Tx: 1; Output Signal: LVDS, LVTTL; Mounting Technology: Surface Mount; Code_JEDEC: MS-012AB; ComponentLink1Description: Datasheet; ComponentLink1URL: http://www.ti.com/general/docs/lit/getliterature.tsp?genericPartNumber=SN65LVDS180-Q1&fileType=pdf; ComponentLink2Description: URL Link1; ComponentLink2URL: SamplesURL:http://www.ti.com/product/sn65lvds180-q1#samples
footprint D14_N (SOIC, 14-Leads, Body 8.7x3.9mm, Pitch 1.27mm, IPC Medium Density)
footprint D14_L (SOIC, 14-Leads, Body 8.7x3.9mm, Pitch 1.27mm, IPC High Density)
footprint D14_M (SOIC, 14-Leads, Body 8.7x3.9mm, Pitch 1.27mm, IPC Low Density)
pins: 1 NC, 2 R (hiz), 3 ~{RE} (in), 4 DE (in), 5 D (in), 6 GND (power), 7 GND (power), 8 NC, 9 Y (out), 10 Z (out), 11 B (in), 12 A (in), 13 VCC (power), 14 VCC (power)

## SN65LVDS180PWRG4Q1
designator U?
400 Mbps Automotive Catalog High-Speed Differential Line Driver and Receiver with LVDS, LVTTL Input and LVDS, LVTTL Output, 1 Tx and 1 Rx, -40 to +85 degC, 14-pin TSSOP (PW), Green (RoHS & no Sb/Br); Manufacturer: Texas Instruments; PartNumber: SN65LVDS180PWRG4Q1; ESD HBM(kV): 2; ICC(Max)(mA): 12; LVDS: TRUE; No. of Rx: 1; Signaling Rate(Mbps): 400; SubFamily: LVDS PHY (<800Mbps); DatasheetVersion: SGLS204B; PackageVersion: revG, Feb-2011; PackageReference: PW14; PackageDescription: 14-Pin Thin Small Outline Package 0.65 mm Pitch; Eco-Plan: Green (RoHS & no Sb/Br); Input Signal: LVDS, LVTTL; No. of Tx: 1; Output Signal: LVDS, LVTTL; Mounting Technology: Surface Mount; Code_JEDEC: MO-153; ComponentLink1Description: Datasheet; ComponentLink1URL: http://www.ti.com/general/docs/lit/getliterature.tsp?genericPartNumber=SN65LVDS180-Q1&fileType=pdf; ComponentLink2Description: URL Link1; ComponentLink2URL: SamplesURL:http://www.ti.com/product/sn65lvds180-q1#samples
footprint PW14_N (TSOP, 14-Leads, Body 5x4.4mm, Pitch 0.65mm, IPC Medium Density)
footprint PW14_L (TSOP, 14-Leads, Body 5x4.4mm, Pitch 0.65mm, IPC High Density)
footprint PW14_M (TSOP, 14-Leads, Body 5x4.4mm, Pitch 0.65mm, IPC Low Density)
pins: 1 NC, 2 R (hiz), 3 ~{RE} (in), 4 DE (in), 5 D (in), 6 GND (power), 7 GND (power), 8 NC, 9 Y (out), 10 Z (out), 11 B (in), 12 A (in), 13 VCC (power), 14 VCC (power)

## SN65LVDS180PWRQ1
designator U?
400 Mbps Automotive Catalog High-Speed Differential Line Drivers and Receivers with LVDS, LVTTL Input and LVDS, LVTTL Output, 1 Tx and 1 Rx, -40 to +85 degC, 14-pin TSSOP (PW), Green (RoHS & no Sb/Br); Manufacturer: Texas Instruments; PartNumber: SN65LVDS180PWRQ1; ESD HBM(kV): 2; ICC(Max)(mA): 12; LVDS: TRUE; No. of Rx: 1; Signaling Rate(Mbps): 400; SubFamily: LVDS PHY (<800Mbps); DatasheetVersion: SGLS204B; PackageVersion: revG, Feb-2011; PackageReference: PW14; PackageDescription: 14-Pin Thin Small Outline Package 0.65 mm Pitch; Eco-Plan: Green (RoHS & no Sb/Br); Input Signal: LVDS, LVTTL; No. of Tx: 1; Output Signal: LVDS, LVTTL; Mounting Technology: Surface Mount; Code_JEDEC: MO-153; ComponentLink1Description: Datasheet; ComponentLink1URL: http://www.ti.com/general/docs/lit/getliterature.tsp?genericPartNumber=SN65LVDS180-Q1&fileType=pdf; ComponentLink2Description: URL Link1; ComponentLink2URL: SamplesURL:http://www.ti.com/product/sn65lvds180-q1#samples
footprint PW14_N (TSOP, 14-Leads, Body 5x4.4mm, Pitch 0.65mm, IPC Medium Density)
footprint PW14_L (TSOP, 14-Leads, Body 5x4.4mm, Pitch 0.65mm, IPC High Density)
footprint PW14_M (TSOP, 14-Leads, Body 5x4.4mm, Pitch 0.65mm, IPC Low Density)
pins: 1 NC, 2 R (hiz), 3 ~{RE} (in), 4 DE (in), 5 D (in), 6 GND (power), 7 GND (power), 8 NC, 9 Y (out), 10 Z (out), 11 B (in), 12 A (in), 13 VCC (power), 14 VCC (power)

## SN65LVDS250DBT
designator U?
2.0 Gbps 4 x 4 Crosspoint Switch with CML, LVDS, LVPECL Input and LVDS Output, 4 Tx and 4 Rx, -40 to +85 degC, 38-pin TSSOP (DBT), Green (RoHS & no Sb/Br); Part-to-Part Skew(Max)(ps): 300; Manufacturer: Texas Instruments; PartNumber: SN65LVDS250DBT; Crosspoint-Switch: TRUE; ESD HBM(kV): 3; ICC(Max)(mA): 145; No. of Rx: 4; Peak-to-Peak Jitter(Max)(ps): 110; Signaling Rate(Mbps): 2000; SubFamily: Crosspoint-Switch (>1Gbps); DatasheetVersion: SLLS594B; PackageVersion: revI, Mar-2011; PackageReference: DBT38; PackageDescription: 38-Pin Plastic Small Outline 0.5 mm Pitch; Supplier 1: Digi-Key; Supplier Part Number 1: 296-16931-ND; Supplier 2: Newark; Supplier Part Number 2: 01J0703; Supplier 3: Mouser; Supplier Part Number 3: 595-SN65LVDS250DBT; Eco-Plan: Green (RoHS & no Sb/Br); Function: Crosspoint; Input Signal: CML, LVDS, LVPECL; No. of Tx: 4; Output Signal: LVDS; Mounting Technology: Surface Mount; Code_JEDEC: MO-153; ComponentLink1Description: Datasheet; ComponentLink1URL: http://www.ti.com/general/docs/lit/getliterature.tsp?genericPartNumber=SN65LVDS250&fileType=pdf; ComponentLink2Description: URL Link1; ComponentLink2URL: SamplesURL:http://www.ti.com/product/sn65lvds250#samples
footprint DBT38_N (TSSOP, 38-Leads, Body 9.7x4.4mm, Pitch 0.5mm, IPC Medium Density)
footprint DBT38_L (TSSOP, 38-Leads, Body 9.7x4.4mm, Pitch 0.5mm, IPC High Density)
footprint DBT38_M (TSSOP, 38-Leads, Body 9.7x4.4mm, Pitch 0.5mm, IPC Low Density)
part A pins: 1 S10 (in), 2 S11 (in), 3 1A (in), 4 1B (in), 5 S20 (in), 6 S21 (in), 7 2A (in), 8 2B (in), 12 3A (in), 13 3B (in), 14 S30 (in), 15 S31 (in), 16 4A (in), 17 4B (in), 18 S40 (in), 19 S41 (in), 22 4DE (in), 23 4Z (out), 24 4Y (out), 25 3DE (in), 26 3Z (out), 27 3Y (out), 31 2DE (in), 32 2Z (out), 33 2Y (out), 34 1DE (in), 35 1Z (out), 36 1Y (out)
part B pins: 9 GND (power), 10 VCC (power), 11 GND (power), 20 VCC (power), 21 GND (power), 28 GND (power), 29 VCC (power), 30 GND (power), 37 GND (power), 38 VCC (power)

## SN65LVDS250DBTG4
designator U?
2.0 Gbps 4 x 4 Crosspoint Switch with CML, LVDS, LVPECL Input and LVDS Output, 4 Tx and 4 Rx, -40 to +85 degC, 38-pin TSSOP (DBT), Green (RoHS & no Sb/Br); Part-to-Part Skew(Max)(ps): 300; Manufacturer: Texas Instruments; PartNumber: SN65LVDS250DBTG4; Crosspoint-Switch: TRUE; ESD HBM(kV): 3; ICC(Max)(mA): 145; No. of Rx: 4; Peak-to-Peak Jitter(Max)(ps): 110; Signaling Rate(Mbps): 2000; SubFamily: Crosspoint-Switch (>1Gbps); DatasheetVersion: SLLS594B; PackageVersion: revI, Mar-2011; PackageReference: DBT38; PackageDescription: 38-Pin Plastic Small Outline 0.5 mm Pitch; Supplier 1: Digi-Key; Supplier Part Number 1: 296-27970-5-ND; Supplier 2: Newark; Supplier Part Number 2: 10M0367; Supplier 3: Mouser; Supplier Part Number 3: 595-SN65LVDS250DBTG4; Eco-Plan: Green (RoHS & no Sb/Br); Function: Crosspoint; Input Signal: CML, LVDS, LVPECL; No. of Tx: 4; Output Signal: LVDS; Mounting Technology: Surface Mount; Code_JEDEC: MO-153; ComponentLink1Description: Datasheet; ComponentLink1URL: http://www.ti.com/general/docs/lit/getliterature.tsp?genericPartNumber=SN65LVDS250&fileType=pdf; ComponentLink2Description: URL Link1; ComponentLink2URL: SamplesURL:http://www.ti.com/product/sn65lvds250#samples
footprint DBT38_N (TSSOP, 38-Leads, Body 9.7x4.4mm, Pitch 0.5mm, IPC Medium Density)
footprint DBT38_L (TSSOP, 38-Leads, Body 9.7x4.4mm, Pitch 0.5mm, IPC High Density)
footprint DBT38_M (TSSOP, 38-Leads, Body 9.7x4.4mm, Pitch 0.5mm, IPC Low Density)
part A pins: 1 S10 (in), 2 S11 (in), 3 1A (in), 4 1B (in), 5 S20 (in), 6 S21 (in), 7 2A (in), 8 2B (in), 12 3A (in), 13 3B (in), 14 S30 (in), 15 S31 (in), 16 4A (in), 17 4B (in), 18 S40 (in), 19 S41 (in), 22 4DE (in), 23 4Z (out), 24 4Y (out), 25 3DE (in), 26 3Z (out), 27 3Y (out), 31 2DE (in), 32 2Z (out), 33 2Y (out), 34 1DE (in), 35 1Z (out), 36 1Y (out)
part B pins: 9 GND (power), 10 VCC (power), 11 GND (power), 20 VCC (power), 21 GND (power), 28 GND (power), 29 VCC (power), 30 GND (power), 37 GND (power), 38 VCC (power)

## SN65LVDS250DBTR
designator U?
2.0 Gbps 4 x 4 Crosspoint Switch with CML, LVDS, LVPECL Input and LVDS Output, 4 Tx and 4 Rx, -40 to +85 degC, 38-pin TSSOP (DBT), Green (RoHS & no Sb/Br); Part-to-Part Skew(Max)(ps): 300; Manufacturer: Texas Instruments; PartNumber: SN65LVDS250DBTR; Crosspoint-Switch: TRUE; ESD HBM(kV): 3; ICC(Max)(mA): 145; No. of Rx: 4; Peak-to-Peak Jitter(Max)(ps): 110; Signaling Rate(Mbps): 2000; SubFamily: Crosspoint-Switch (>1Gbps); DatasheetVersion: SLLS594B; PackageVersion: revI, Mar-2011; PackageReference: DBT38; PackageDescription: 38-Pin Plastic Small Outline 0.5 mm Pitch; Supplier 1: Digi-Key; Supplier Part Number 1: SN65LVDS250DBTR-ND; Supplier 2: Newark; Supplier Part Number 2: 01J0704; Supplier 3: Mouser; Supplier Part Number 3: 595-SN65LVDS250DBTR; Eco-Plan: Green (RoHS & no Sb/Br); Function: Crosspoint; Input Signal: CML, LVDS, LVPECL; No. of Tx: 4; Output Signal: LVDS; Mounting Technology: Surface Mount; Code_JEDEC: MO-153; ComponentLink1Description: Datasheet; ComponentLink1URL: http://www.ti.com/general/docs/lit/getliterature.tsp?genericPartNumber=SN65LVDS250&fileType=pdf; ComponentLink2Description: URL Link1; ComponentLink2URL: SamplesURL:http://www.ti.com/product/sn65lvds250#samples
footprint DBT38_N (TSSOP, 38-Leads, Body 9.7x4.4mm, Pitch 0.5mm, IPC Medium Density)
footprint DBT38_L (TSSOP, 38-Leads, Body 9.7x4.4mm, Pitch 0.5mm, IPC High Density)
footprint DBT38_M (TSSOP, 38-Leads, Body 9.7x4.4mm, Pitch 0.5mm, IPC Low Density)
part A pins: 1 S10 (in), 2 S11 (in), 3 1A (in), 4 1B (in), 5 S20 (in), 6 S21 (in), 7 2A (in), 8 2B (in), 12 3A (in), 13 3B (in), 14 S30 (in), 15 S31 (in), 16 4A (in), 17 4B (in), 18 S40 (in), 19 S41 (in), 22 4DE (in), 23 4Z (out), 24 4Y (out), 25 3DE (in), 26 3Z (out), 27 3Y (out), 31 2DE (in), 32 2Z (out), 33 2Y (out), 34 1DE (in), 35 1Z (out), 36 1Y (out)
part B pins: 9 GND (power), 10 VCC (power), 11 GND (power), 20 VCC (power), 21 GND (power), 28 GND (power), 29 VCC (power), 30 GND (power), 37 GND (power), 38 VCC (power)

## SN65LVDS250DBTRG4
designator U?
2.0 Gbps 4 x 4 Crosspoint Switch with CML, LVDS, LVPECL Input and LVDS Output, 4 Tx and 4 Rx, -40 to +85 degC, 38-pin TSSOP (DBT), Green (RoHS & no Sb/Br); Part-to-Part Skew(Max)(ps): 300; Manufacturer: Texas Instruments; PartNumber: SN65LVDS250DBTRG4; Crosspoint-Switch: TRUE; ESD HBM(kV): 3; ICC(Max)(mA): 145; No. of Rx: 4; Peak-to-Peak Jitter(Max)(ps): 110; Signaling Rate(Mbps): 2000; SubFamily: Crosspoint-Switch (>1Gbps); DatasheetVersion: SLLS594B; PackageVersion: revI, Mar-2011; PackageReference: DBT38; PackageDescription: 38-Pin Plastic Small Outline 0.5 mm Pitch; Supplier 1: Digi-Key; Supplier Part Number 1: SN65LVDS250DBTRG4-ND; Supplier 2: Newark; Supplier Part Number 2: 54K0555; Supplier 3: Mouser; Supplier Part Number 3: 595-SN65LVDS250DBTRG; Eco-Plan: Green (RoHS & no Sb/Br); Function: Crosspoint; Input Signal: CML, LVDS, LVPECL; No. of Tx: 4; Output Signal: LVDS; Mounting Technology: Surface Mount; Code_JEDEC: MO-153; ComponentLink1Description: Datasheet; ComponentLink1URL: http://www.ti.com/general/docs/lit/getliterature.tsp?genericPartNumber=SN65LVDS250&fileType=pdf; ComponentLink2Description: URL Link1; ComponentLink2URL: SamplesURL:http://www.ti.com/product/sn65lvds250#samples
footprint DBT38_N (TSSOP, 38-Leads, Body 9.7x4.4mm, Pitch 0.5mm, IPC Medium Density)
footprint DBT38_L (TSSOP, 38-Leads, Body 9.7x4.4mm, Pitch 0.5mm, IPC High Density)
footprint DBT38_M (TSSOP, 38-Leads, Body 9.7x4.4mm, Pitch 0.5mm, IPC Low Density)
part A pins: 1 S10 (in), 2 S11 (in), 3 1A (in), 4 1B (in), 5 S20 (in), 6 S21 (in), 7 2A (in), 8 2B (in), 12 3A (in), 13 3B (in), 14 S30 (in), 15 S31 (in), 16 4A (in), 17 4B (in), 18 S40 (in), 19 S41 (in), 22 4DE (in), 23 4Z (out), 24 4Y (out), 25 3DE (in), 26 3Z (out), 27 3Y (out), 31 2DE (in), 32 2Z (out), 33 2Y (out), 34 1DE (in), 35 1Z (out), 36 1Y (out)
part B pins: 9 GND (power), 10 VCC (power), 11 GND (power), 20 VCC (power), 21 GND (power), 28 GND (power), 29 VCC (power), 30 GND (power), 37 GND (power), 38 VCC (power)

## SN65LVDT14QPWREP
designator U?
125 Mbps Enhanced Product Memorystick™ Interconnect Extender Chipset with LVDS and LVTTL, 1 Tx and 4 Rx, -55 to +125 degC, 20-pin TSSOP (PW), Green (RoHS & no Sb/Br); Part-to-Part Skew(Max)(ps): 1000; Manufacturer: Texas Instruments; PartNumber: SN65LVDT14QPWREP; ESD HBM(kV): 12; ICC(Max)(mA): 25; Input Signal: LVDS, LVTTL; No. of Rx: 4; No. of Tx: 1; Signaling Rate(Mbps): 125; SubFamily: LVDS PHY (<800Mbps); DatasheetVersion: SCES633; PackageVersion: revG, Feb-2011; PackageReference: PW20; PackageDescription: 20-Pin Plastic Thin Small Outline Package 6.5 x 4.4 mm Body ,0.65 mm Pitch; Supplier 1: Digi-Key; Supplier Part Number 1: 296-19499-2-ND; Supplier 2: Digi-Key; Supplier Part Number 2: 296-19499-1-ND; Supplier 3: Digi-Key; Supplier Part Number 3: 296-19499-6-ND; Supplier 4: Mouser; Supplier Part Number 4: 595-SN65LVDT14QPWREP; Eco-Plan: Green (RoHS & no Sb/Br); Output Signal: LVDS, LVTTL; Mounting Technology: Surface Mount; Code_JEDEC: MO-153; ComponentLink1Description: Datasheet; ComponentLink1URL: http://www.ti.com/general/docs/lit/getliterature.tsp?genericPartNumber=SN65LVDT14-EP&fileType=pdf; ComponentLink2Description: URL Link1; ComponentLink2URL: SamplesURL:http://www.ti.com/product/sn65lvdt14-ep#samples
footprint PW20_N (TSOP, 20-Leads, Body 6.5x4.4mm, Pitch 0.65mm, IPC Medium Density)
footprint PW20_L (TSOP, 20-Leads, Body 6.5x4.4mm, Pitch 0.65mm, IPC High Density)
footprint PW20_M (TSOP, 20-Leads, Body 6.5x4.4mm, Pitch 0.65mm, IPC Low Density)
pins: 1 1A (in), 2 1B (in), 3 2A (in), 4 2B (in), 5 3A (in), 6 3B (in), 7 4A (in), 8 4B (in), 9 5Y (out), 10 5Z (out), 11 GND (power), 12 5D (in), 13 VCC (power), 14 4R (out), 15 GND (power), 16 3R (out), 17 VCC (power), 18 2R (out), 19 GND (power), 20 1R (out)

## SN65LVDT41QPWREP
designator U?
Enhanced Product Memorystick™ Interconnect Extender Chipset, -40 to +125 degC, 20-Pin TSSOP (PW), Green (RoHS & no Sb/Br); Manufacturer: Texas Instruments; PartNumber: SN65LVDT41QPWREP; SubFamily: LVDS PHY (<800Mbps); DatasheetVersion: SCES633; PackageVersion: revG, Feb-2011; PackageReference: PW20; PackageDescription: 20-Pin Plastic Thin Small Outline Package 6.5 x 4.4 mm Body ,0.65 mm Pitch; Supplier 1: Digi-Key; Supplier Part Number 1: 296-21246-2-ND; Supplier 2: Digi-Key; Supplier Part Number 2: 296-21246-1-ND; Supplier 3: Digi-Key; Supplier Part Number 3: 296-21246-6-ND; Supplier 4: Mouser; Supplier Part Number 4: 595-SN65LVDT41QPWREP; Eco-Plan: Green (RoHS & no Sb/Br); Mounting Technology: Surface Mount; Code_JEDEC: MO-153; ComponentLink1Description: Datasheet; ComponentLink1URL: http://www.ti.com/general/docs/lit/getliterature.tsp?genericPartNumber=SN65LVDT41-EP&fileType=pdf; ComponentLink2Description: URL Link1; ComponentLink2URL: SamplesURL:http://www.ti.com/product/sn65lvdt41-ep#samples
footprint PW20_N (TSOP, 20-Leads, Body 6.5x4.4mm, Pitch 0.65mm, IPC Medium Density)
footprint PW20_L (TSOP, 20-Leads, Body 6.5x4.4mm, Pitch 0.65mm, IPC High Density)
footprint PW20_M (TSOP, 20-Leads, Body 6.5x4.4mm, Pitch 0.65mm, IPC Low Density)
pins: 1 1D (in), 2 GND (power), 3 2D (in), 4 VCC (power), 5 3D (in), 6 GND (power), 7 4D (in), 8 VCC (power), 9 5R (out), 10 GND (power), 11 5B (in), 12 5A (in), 13 4Z (out), 14 4Y (out), 15 3Z (out), 16 3Y (out), 17 2Z (out), 18 2Y (out), 19 1Z (out), 20 1Y (out)

## SN65LVDT122D
designator U?
1500 Mbps 2X2 1.5 Gbps LVDS Crosspoint Switch with CML, LVDS, LVPECL Input and LVDS Output, 2 Tx and 2 Rx, -40 to +85 degC, 16-pin SOIC (D), Green (RoHS & no Sb/Br); Manufacturer: Texas Instruments; PartNumber: SN65LVDT122D; Crosspoint-Switch: TRUE; ESD HBM(kV): 4; ICC(Max)(mA): 100; No. of Rx: 2; Peak-to-Peak Jitter(Max)(ps): 65; Signaling Rate(Mbps): 1500; SubFamily: Crosspoint-Switch (>1Gbps); DatasheetVersion: SLLS525B; PackageVersion: revM, Jun-2011; PackageReference: D16; PackageDescription: 16-Pin Plastic Small Outline Integrated Circuit, 9.9 x 3.9 mm, Pitch 1.27 mm Pitch; Eco-Plan: Green (RoHS & no Sb/Br); Function: Crosspoint; Input Signal: CML, LVDS, LVPECL; No. of Tx: 2; Output Signal: LVDS; Part-to-Part Skew(Max)(ps): 100; Mounting Technology: Surface Mount; Code_JEDEC: MS-012AC; ComponentLink1Description: Datasheet; ComponentLink1URL: http://www.ti.com/general/docs/lit/getliterature.tsp?genericPartNumber=SN65LVDT122&fileType=pdf; ComponentLink2Description: URL Link1; ComponentLink2URL: SamplesURL:http://www.ti.com/product/sn65lvdt122#samples
footprint D16_N (SOIC, 16-Leads, Body 9.9x3.9mm, Pitch 1.27mm, IPC Medium Density)
footprint D16_L (SOIC, 16-Leads, Body 9.9x3.9mm, Pitch 1.27mm, IPC High Density)
footprint D16_M (SOIC, 16-Leads, Body 9.9x3.9mm, Pitch 1.27mm, IPC Low Density)
pins: 1 1B (in), 2 1A (in), 3 S0 (in), 4 1DE (in), 5 S1 (in), 6 2A (in), 7 2B (in), 8 GND (power), 9 GND (power), 10 2Y (hiz), 11 2Z (hiz), 12 2DE (in), 13 1Z (hiz), 14 1Y (hiz), 15 VCC (power), 16 VCC (power)

## SN65LVDT250DBT
designator U?
2.0 Gbps 4x4 Crosspoint Switch with 3 Data Channels, 3.3 V, -40 to +85 degC, 38-pin TSSOP(DBT), Green (RoHS Sb/Br); Part-to-Part Skew(Max)(ps): 300; Manufacturer: Texas Instruments; PartNumber: SN65LVDT250DBT; Crosspoint-Switch: TRUE; Eco-Plan: Green (RoHS & no Sb/Br); ESD HBM(kV): 3; ICC(Max)(mA): 145; Input Signal: CML, LVDS, LVPECL; No. of Rx: 4; Output Signal: LVDS; Peak-to-Peak Jitter(Max)(ps): 110; Signaling Rate(Mbps): 2000; SubFamily: Crosspoint-Switch (>1Gbps); DatasheetVersion: SLLS594B; PackageVersion: revI, Mar-2011; PackageReference: DBT38; PackageDescription: 38-Pin Plastic Small Outline 0.5 mm Pitch; Supplier 1: Digi-Key; Supplier Part Number 1: 296-16932-ND; Supplier 2: Farnell; Supplier Part Number 2: 1408843; Supplier 3: Newark; Supplier Part Number 3: 01J0707; Supplier 4: Mouser; Supplier Part Number 4: 595-SN65LVDT250DBT; Function: Crosspoint; No. of Tx: 4; Mounting Technology: Surface Mount; Code_JEDEC: MO-153; ComponentLink1Description: Datasheet; ComponentLink1URL: http://www.ti.com/general/docs/lit/getliterature.tsp?genericPartNumber=SN65LVDT250&fileType=pdf; ComponentLink2Description: URL Link1; ComponentLink2URL: SamplesURL:http://www.ti.com/product/sn65lvdt250#samples
footprint DBT38_N (TSSOP, 38-Leads, Body 9.7x4.4mm, Pitch 0.5mm, IPC Medium Density)
footprint DBT38_L (TSSOP, 38-Leads, Body 9.7x4.4mm, Pitch 0.5mm, IPC High Density)
footprint DBT38_M (TSSOP, 38-Leads, Body 9.7x4.4mm, Pitch 0.5mm, IPC Low Density)
part A pins: 1 S10 (in), 2 S11 (in), 3 1A (in), 4 1B (in), 5 S20 (in), 6 S21 (in), 7 2A (in), 8 2B (in), 12 3A (in), 13 3B (in), 14 S30 (in), 15 S31 (in), 16 4A (in), 17 4B (in), 18 S40 (in), 19 S41 (in), 22 4DE (in), 23 4Z (out), 24 4Y (out), 25 3DE (in), 26 3Z (out), 27 3Y (out), 31 2DE (in), 32 2Z (out), 33 2Y (out), 34 1DE (in), 35 1Z (out), 36 1Y (out)
part B pins: 9 GND (power), 10 VCC (power), 11 GND (power), 20 VCC (power), 21 GND (power), 28 GND (power), 29 VCC (power), 30 GND (power), 37 GND (power), 38 VCC (power)

## SN65LVDT250DBTG4
designator U?
2.0 Gbps 4 x 4 Crosspoint Switch with CML, LVDS, LVPECL Input and LVDS Output, 4 Tx and 4 Rx, -40 to +85 degC, 38-pin TSSOP (DBT), Green (RoHS & no Sb/Br); Part-to-Part Skew(Max)(ps): 300; Manufacturer: Texas Instruments; PartNumber: SN65LVDT250DBTG4; Crosspoint-Switch: TRUE; ESD HBM(kV): 3; ICC(Max)(mA): 145; No. of Rx: 4; Peak-to-Peak Jitter(Max)(ps): 110; Signaling Rate(Mbps): 2000; SubFamily: Crosspoint-Switch (>1Gbps); DatasheetVersion: SLLS594B; PackageVersion: revI, Mar-2011; PackageReference: DBT38; PackageDescription: 38-Pin Plastic Small Outline 0.5 mm Pitch; Supplier 1: Digi-Key; Supplier Part Number 1: SN65LVDT250DBTG4-ND; Supplier 2: Newark; Supplier Part Number 2: 10M0372; Supplier 3: Mouser; Supplier Part Number 3: 595-SN65LVDT250DBTG4; Eco-Plan: Green (RoHS & no Sb/Br); Function: Crosspoint; Input Signal: CML, LVDS, LVPECL; No. of Tx: 4; Output Signal: LVDS; Mounting Technology: Surface Mount; Code_JEDEC: MO-153; ComponentLink1Description: Datasheet; ComponentLink1URL: http://www.ti.com/general/docs/lit/getliterature.tsp?genericPartNumber=SN65LVDT250&fileType=pdf; ComponentLink2Description: URL Link1; ComponentLink2URL: SamplesURL:http://www.ti.com/product/sn65lvdt250#samples
footprint DBT38_N (TSSOP, 38-Leads, Body 9.7x4.4mm, Pitch 0.5mm, IPC Medium Density)
footprint DBT38_L (TSSOP, 38-Leads, Body 9.7x4.4mm, Pitch 0.5mm, IPC High Density)
footprint DBT38_M (TSSOP, 38-Leads, Body 9.7x4.4mm, Pitch 0.5mm, IPC Low Density)
part A pins: 1 S10 (in), 2 S11 (in), 3 1A (in), 4 1B (in), 5 S20 (in), 6 S21 (in), 7 2A (in), 8 2B (in), 12 3A (in), 13 3B (in), 14 S30 (in), 15 S31 (in), 16 4A (in), 17 4B (in), 18 S40 (in), 19 S41 (in), 22 4DE (in), 23 4Z (out), 24 4Y (out), 25 3DE (in), 26 3Z (out), 27 3Y (out), 31 2DE (in), 32 2Z (out), 33 2Y (out), 34 1DE (in), 35 1Z (out), 36 1Y (out)
part B pins: 9 GND (power), 10 VCC (power), 11 GND (power), 20 VCC (power), 21 GND (power), 28 GND (power), 29 VCC (power), 30 GND (power), 37 GND (power), 38 VCC (power)